# Altium schematic symbol library MECH,Heatsink,omniKlip,OMNI-UNI-27-25.SchLib: 1 symbol
Pins are listed as number, name and electrical type; pins without a type are passive.

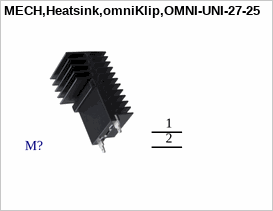
[diagram p0: symbol MECH,Heatsink,omniKlip,OMNI-UNI-27-25]

## MECH,Heatsink,omniKlip,OMNI-UNI-27-25
designator M?
pins: 1, 2